# Altium integrated library Xilinx Memory SPROM.IntLib: 32 symbols
Pins are listed as number, name and electrical type; pins without a type are passive.

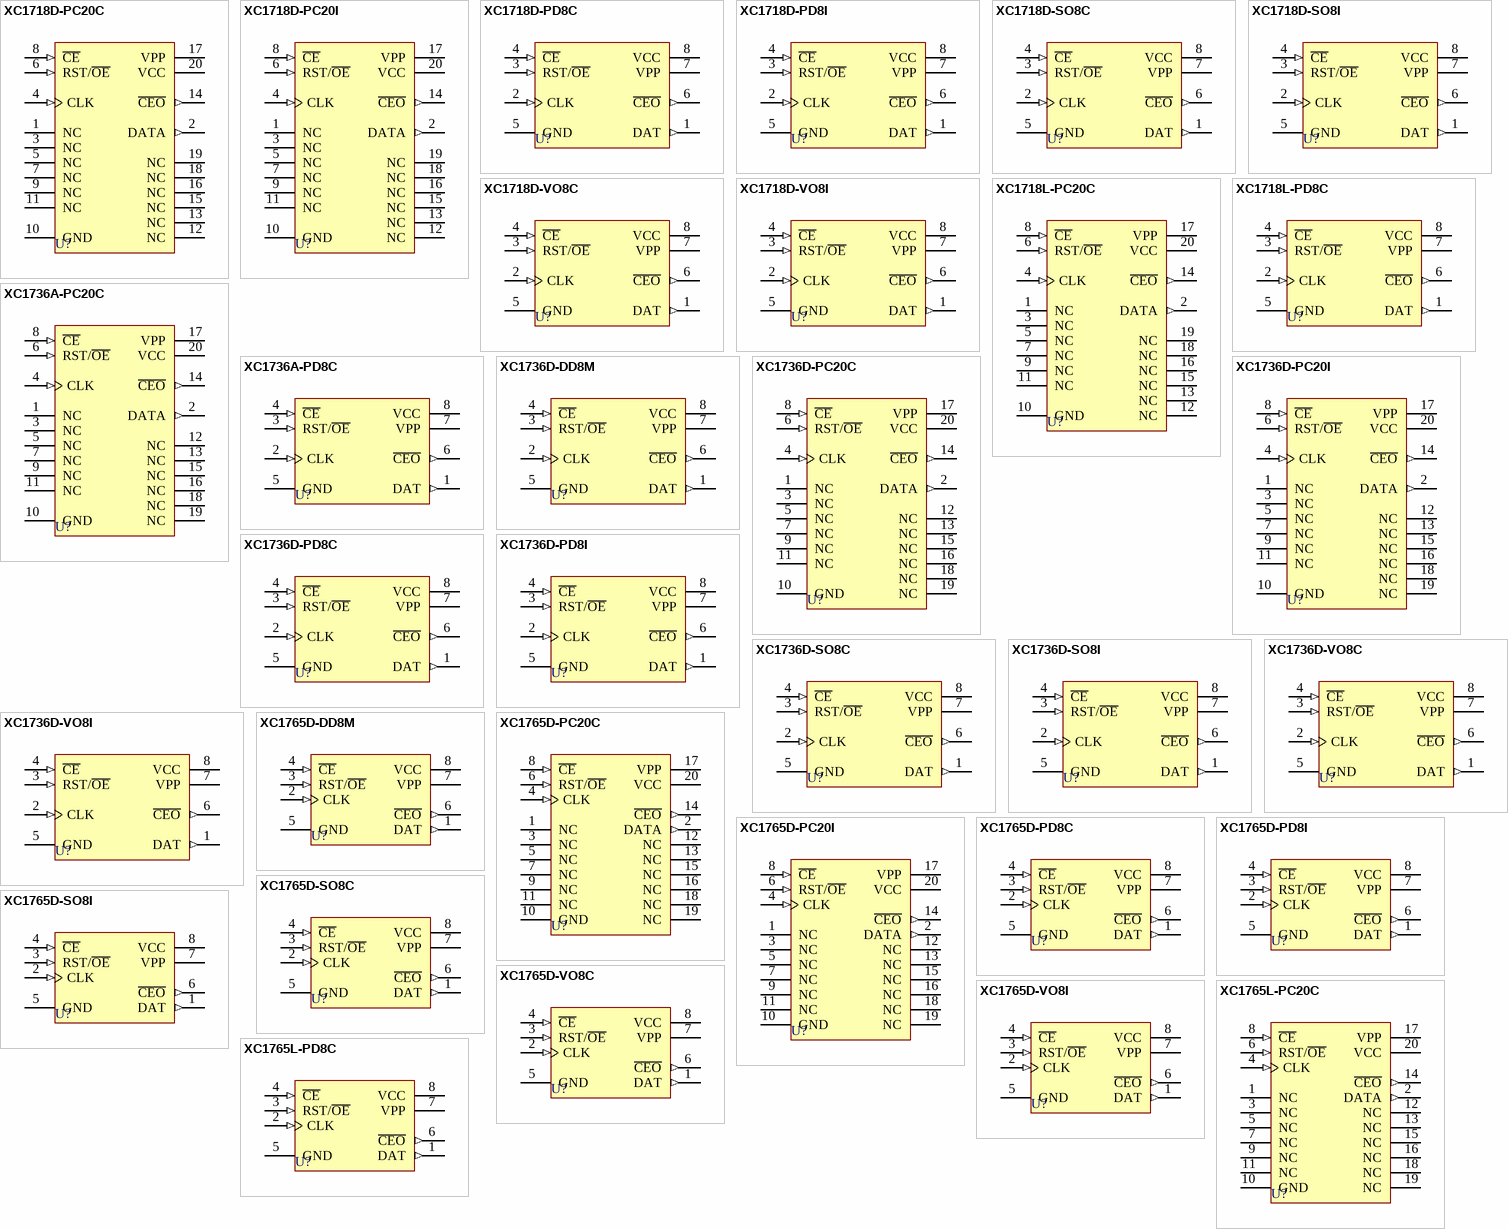
[diagram p0: symbols XC1718D-PC20C to XC1765L-PD8C]

## XC1718D-PC20C
designator U?
Serial Configuration PROM, 20-Pin PLCC, Commercial Grade; ComponentAvailability: Obsolete; Published: 8-Jun-2000; LatestRevisionDate: 13-Apr-2006; LatestRevisionNote: IPC-7351 Footprint Added.; DatasheetVersion: 1994; PackageVersion: ver1.2, Jun-2004; PackageReference: PC20; Publisher: Altium Limited; PackageDescription: 20-Pin Plastic Leaded Chip Carrier (PC20); Code_JEDEC: MS-047; Code_IPC: PLCC-20; ComponentLink1Description: Manufacturer Link; ComponentLink1URL: http://www.xilinx.com/; ComponentLink2Description: Discontinuation Notice; ComponentLink2URL: http://direct.xilinx.com/bvdocs/notifications/pdn98004.pdf
footprint PC20_N (Leaded Chip Carrier, 20-Leads, Body 9x9mm, Pitch 1.27mm, IPC Medium Density)
footprint PC20_L (Leaded Chip Carrier, 20-Leads, Body 9x9mm, Pitch 1.27mm, IPC High Density)
footprint PC20_M (Leaded Chip Carrier, 20-Leads, Body 9x9mm, Pitch 1.27mm, IPC Low Density)
3D model XC1718D-PC20 (20-Pin Plastic Leaded Chip Carrier (PC20))
pins: 1 NC, 2 DATA (out), 3 NC, 4 CLK (in), 5 NC, 6 RST/~{OE} (in), 7 NC, 8 ~{CE} (in), 9 NC, 10 GND (power), 11 NC, 12 NC, 13 NC, 14 ~{CEO} (out), 15 NC, 16 NC, 17 VPP (power), 18 NC, 19 NC, 20 VCC (power)

## XC1718D-PC20I
designator U?
Serial Configuration PROM, 20-Pin PLCC, Industrial Grade; ComponentAvailability: Obsolete; Published: 8-Jun-2000; LatestRevisionDate: 13-Apr-2006; LatestRevisionNote: IPC-7351 Footprint Added.; DatasheetVersion: 1994; PackageVersion: ver1.2, Jun-2004; PackageReference: PC20; Publisher: Altium Limited; PackageDescription: 20-Pin Plastic Leaded Chip Carrier (PC20); Code_JEDEC: MS-047; Code_IPC: PLCC-20; ComponentLink1Description: Manufacturer Link; ComponentLink1URL: http://www.xilinx.com/; ComponentLink2Description: Discontinuation Notice; ComponentLink2URL: http://direct.xilinx.com/bvdocs/notifications/pdn98004.pdf
footprint PC20_N (Leaded Chip Carrier, 20-Leads, Body 9x9mm, Pitch 1.27mm, IPC Medium Density)
footprint PC20_L (Leaded Chip Carrier, 20-Leads, Body 9x9mm, Pitch 1.27mm, IPC High Density)
footprint PC20_M (Leaded Chip Carrier, 20-Leads, Body 9x9mm, Pitch 1.27mm, IPC Low Density)
3D model XC1718D-PC20 (20-Pin Plastic Leaded Chip Carrier (PC20))
pins: 1 NC, 2 DATA (out), 3 NC, 4 CLK (in), 5 NC, 6 RST/~{OE} (in), 7 NC, 8 ~{CE} (in), 9 NC, 10 GND (power), 11 NC, 12 NC, 13 NC, 14 ~{CEO} (out), 15 NC, 16 NC, 17 VPP (power), 18 NC, 19 NC, 20 VCC (power)

## XC1718D-PD8C
designator U?
Serial Configuration PROM, 8-Pin PDIP, Commercial Grade; ComponentAvailability: Obsolete; Published: 8-Jun-2000; LatestRevisionDate: 17-Jul-2002; LatestRevisionNote: Re-released for DXP Platform.; DatasheetVersion: 1994; PackageVersion: rev1.1, Apr-2001; PackageReference: PD8; Publisher: Altium Limited; PackageDescription: 8-Pin Plastic DIP (PD8); Code_JEDEC: MS-001-BA; ComponentLink1Description: Manufacturer Link; ComponentLink1URL: http://www.xilinx.com/; ComponentLink2Description: Discontinuation Notice; ComponentLink2URL: http://direct.xilinx.com/bvdocs/notifications/pdn98004.pdf
footprint PD8 (8-Pin Plastic DIP (PD8))
pins: 1 DAT (out), 2 CLK (in), 3 RST/~{OE} (in), 4 ~{CE} (in), 5 GND (power), 6 ~{CEO} (out), 7 VPP (power), 8 VCC (power)

## XC1718D-PD8I
designator U?
Serial Configuration PROM, 8-Pin PDIP, Industrial Grade; ComponentAvailability: Obsolete; Published: 8-Jun-2000; LatestRevisionDate: 17-Jul-2002; LatestRevisionNote: Re-released for DXP Platform.; DatasheetVersion: 1994; PackageVersion: rev1.1, Apr-2001; PackageReference: PD8; Publisher: Altium Limited; PackageDescription: 8-Pin Plastic DIP (PD8); Code_JEDEC: MS-001-BA; ComponentLink1Description: Manufacturer Link; ComponentLink1URL: http://www.xilinx.com/; ComponentLink2Description: Discontinuation Notice; ComponentLink2URL: http://direct.xilinx.com/bvdocs/notifications/pdn98004.pdf
footprint PD8 (8-Pin Plastic DIP (PD8))
pins: 1 DAT (out), 2 CLK (in), 3 RST/~{OE} (in), 4 ~{CE} (in), 5 GND (power), 6 ~{CEO} (out), 7 VPP (power), 8 VCC (power)

## XC1718D-SO8C
designator U?
Serial Configuration PROM, 8-Pin SOIC, Commercial Grade; ComponentAvailability: Obsolete; Published: 8-Jun-2000; LatestRevisionDate: 13-Apr-2006; LatestRevisionNote: IPC-7351 Footprint Added.; DatasheetVersion: 1994; PackageVersion: ver1.1, Apr-2001; PackageReference: SO8; Publisher: Altium Limited; PackageDescription: 8-Pin Small Outline Package (SO8); Code_JEDEC: MS-012; ComponentLink1Description: Manufacturer Link; ComponentLink1URL: http://www.xilinx.com/; ComponentLink2Description: Discontinuation Notice; ComponentLink2URL: http://direct.xilinx.com/bvdocs/notifications/pdn98004.pdf
footprint SO8_N (SOIC, 8-Leads, Body 4.9x3.9mm, Pitch 1.27mm, IPC Medium Density)
footprint SO8_L (SOIC, 8-Leads, Body 4.9x3.9mm, Pitch 1.27mm, IPC High Density)
footprint SO8_M (SOIC, 8-Leads, Body 4.9x3.9mm, Pitch 1.27mm, IPC Low Density)
3D model SO8 (8-Pin Small Outline Package (SO8))
pins: 1 DAT (out), 2 CLK (in), 3 RST/~{OE} (in), 4 ~{CE} (in), 5 GND (power), 6 ~{CEO} (out), 7 VPP (power), 8 VCC (power)

## XC1718D-SO8I
designator U?
Serial Configuration PROM, 8-Pin SOIC, Industrial Grade; ComponentAvailability: Obsolete; Published: 8-Jun-2000; LatestRevisionDate: 13-Apr-2006; LatestRevisionNote: IPC-7351 Footprint Added.; DatasheetVersion: 1994; PackageVersion: ver1.1, Apr-2001; PackageReference: SO8; Publisher: Altium Limited; PackageDescription: 8-Pin Small Outline Package (SO8); Code_JEDEC: MS-012; ComponentLink1Description: Manufacturer Link; ComponentLink1URL: http://www.xilinx.com/; ComponentLink2Description: Discontinuation Notice; ComponentLink2URL: http://direct.xilinx.com/bvdocs/notifications/pdn98004.pdf
footprint SO8_N (SOIC, 8-Leads, Body 4.9x3.9mm, Pitch 1.27mm, IPC Medium Density)
footprint SO8_L (SOIC, 8-Leads, Body 4.9x3.9mm, Pitch 1.27mm, IPC High Density)
footprint SO8_M (SOIC, 8-Leads, Body 4.9x3.9mm, Pitch 1.27mm, IPC Low Density)
3D model SO8 (8-Pin Small Outline Package (SO8))
pins: 1 DAT (out), 2 CLK (in), 3 RST/~{OE} (in), 4 ~{CE} (in), 5 GND (power), 6 ~{CEO} (out), 7 VPP (power), 8 VCC (power)

## XC1718D-VO8C
designator U?
Serial Configuration PROM, 8-Pin TSOP, Commercial Grade; ComponentAvailability: Obsolete; Published: 8-Jun-2000; LatestRevisionDate: 13-Apr-2006; LatestRevisionNote: IPC-7351 Footprint Added.; DatasheetVersion: 1994; PackageVersion: ver1.1, Apr-2001; PackageReference: VO8; Publisher: Altium Limited; PackageDescription: 8-Pin Thin Small Outline Package (VO8); ComponentLink1Description: Manufacturer Link; ComponentLink1URL: http://www.xilinx.com/; ComponentLink2Description: Discontinuation Notice; ComponentLink2URL: http://direct.xilinx.com/bvdocs/notifications/pdn98004.pdf
footprint VO8_N (SOIC, 8-Leads, Body 4.9x3.9mm, Pitch 1.27mm, IPC Medium Density)
footprint VO8_L (SOIC, 8-Leads, Body 4.9x3.9mm, Pitch 1.27mm, IPC High Density)
footprint VO8_M (SOIC, 8-Leads, Body 4.9x3.9mm, Pitch 1.27mm, IPC Low Density)
3D model SO8 (8-Pin Thin Small Outline Package (VO8))
pins: 1 DAT (out), 2 CLK (in), 3 RST/~{OE} (in), 4 ~{CE} (in), 5 GND (power), 6 ~{CEO} (out), 7 VPP (power), 8 VCC (power)

## XC1718D-VO8I
designator U?
Serial Configuration PROM, 8-Pin TSOP, Industrial Grade; ComponentAvailability: Obsolete; Published: 8-Jun-2000; LatestRevisionDate: 13-Apr-2006; LatestRevisionNote: IPC-7351 Footprint Added.; DatasheetVersion: 1994; PackageVersion: ver1.1, Apr-2001; PackageReference: VO8; Publisher: Altium Limited; PackageDescription: 8-Pin Thin Small Outline Package (VO8); ComponentLink1Description: Manufacturer Link; ComponentLink1URL: http://www.xilinx.com/; ComponentLink2Description: Discontinuation Notice; ComponentLink2URL: http://direct.xilinx.com/bvdocs/notifications/pdn98004.pdf
footprint VO8_N (SOIC, 8-Leads, Body 4.9x3.9mm, Pitch 1.27mm, IPC Medium Density)
footprint VO8_L (SOIC, 8-Leads, Body 4.9x3.9mm, Pitch 1.27mm, IPC High Density)
footprint VO8_M (SOIC, 8-Leads, Body 4.9x3.9mm, Pitch 1.27mm, IPC Low Density)
3D model SO8 (8-Pin Thin Small Outline Package (VO8))
pins: 1 DAT (out), 2 CLK (in), 3 RST/~{OE} (in), 4 ~{CE} (in), 5 GND (power), 6 ~{CEO} (out), 7 VPP (power), 8 VCC (power)

## XC1718L-PC20C
designator U?
Serial Configuration PROM, 20-Pin PLCC, Commercial Grade; ComponentAvailability: Obsolete; Published: 8-Jun-2000; LatestRevisionDate: 13-Apr-2006; LatestRevisionNote: IPC-7351 Footprint Added.; DatasheetVersion: 1994; PackageVersion: ver1.2, Jun-2004; PackageReference: PC20; Publisher: Altium Limited; PackageDescription: 20-Pin Plastic Leaded Chip Carrier (PC20); Code_JEDEC: MS-047; Code_IPC: PLCC-20; ComponentLink1Description: Manufacturer Link; ComponentLink1URL: http://www.xilinx.com/; ComponentLink2Description: Discontinuation Notice; ComponentLink2URL: http://direct.xilinx.com/bvdocs/notifications/pdn98004.pdf
footprint PC20_N (Leaded Chip Carrier, 20-Leads, Body 9x9mm, Pitch 1.27mm, IPC Medium Density)
footprint PC20_L (Leaded Chip Carrier, 20-Leads, Body 9x9mm, Pitch 1.27mm, IPC High Density)
footprint PC20_M (Leaded Chip Carrier, 20-Leads, Body 9x9mm, Pitch 1.27mm, IPC Low Density)
3D model XC1718L-PC20 (20-Pin Plastic Leaded Chip Carrier (PC20))
pins: 1 NC, 2 DATA (out), 3 NC, 4 CLK (in), 5 NC, 6 RST/~{OE} (in), 7 NC, 8 ~{CE} (in), 9 NC, 10 GND (power), 11 NC, 12 NC, 13 NC, 14 ~{CEO} (out), 15 NC, 16 NC, 17 VPP (power), 18 NC, 19 NC, 20 VCC (power)

## XC1718L-PD8C
designator U?
Serial Configuration PROM, 8-Pin PDIP, Commercial Grade; ComponentAvailability: Obsolete; Published: 8-Jun-2000; LatestRevisionDate: 17-Jul-2002; LatestRevisionNote: Re-released for DXP Platform.; DatasheetVersion: 1994; PackageVersion: rev1.1, Apr-2001; PackageReference: PD8; Publisher: Altium Limited; PackageDescription: 8-Pin Plastic DIP (PD8); Code_JEDEC: MS-001-BA; ComponentLink1Description: Manufacturer Link; ComponentLink1URL: http://www.xilinx.com/; ComponentLink2Description: Discontinuation Notice; ComponentLink2URL: http://direct.xilinx.com/bvdocs/notifications/pdn98004.pdf
footprint PD8 (8-Pin Plastic DIP (PD8))
pins: 1 DAT (out), 2 CLK (in), 3 RST/~{OE} (in), 4 ~{CE} (in), 5 GND (power), 6 ~{CEO} (out), 7 VPP (power), 8 VCC (power)

## XC1736A-PC20C
designator U?
Serial Configuration PROM, 20-Pin PLCC, Commercial Grade; ComponentAvailability: Obsolete; Published: 8-Jun-2000; LatestRevisionDate: 13-Apr-2006; LatestRevisionNote: IPC-7351 Footprint Added.; DatasheetVersion: 1992; PackageVersion: ver1.2, Jun-2004; PackageReference: PC20; Publisher: Altium Limited; PackageDescription: 20-Pin Plastic Leaded Chip Carrier (PC20); Code_JEDEC: MS-047; Code_IPC: PLCC-20; ComponentLink1Description: Manufacturer Link; ComponentLink1URL: http://www.xilinx.com/; ComponentLink2Description: Discontinuation Notice; ComponentLink2URL: http://direct.xilinx.com/bvdocs/notifications/pcn95010.pdf
footprint PC20_N (Leaded Chip Carrier, 20-Leads, Body 9x9mm, Pitch 1.27mm, IPC Medium Density)
footprint PC20_L (Leaded Chip Carrier, 20-Leads, Body 9x9mm, Pitch 1.27mm, IPC High Density)
footprint PC20_M (Leaded Chip Carrier, 20-Leads, Body 9x9mm, Pitch 1.27mm, IPC Low Density)
3D model XC1736A-PC20 (20-Pin Plastic Leaded Chip Carrier (PC20))
pins: 1 NC, 2 DATA (out), 3 NC, 4 CLK (in), 5 NC, 6 RST/~{OE} (in), 7 NC, 8 ~{CE} (in), 9 NC, 10 GND (power), 11 NC, 12 NC, 13 NC, 14 ~{CEO} (out), 15 NC, 16 NC, 17 VPP (power), 18 NC, 19 NC, 20 VCC (power)

## XC1736A-PD8C
designator U?
Serial Configuration PROM, 8-Pin PDIP, Commercial Grade; ComponentAvailability: Obsolete; Published: 8-Jun-2000; LatestRevisionDate: 17-Jul-2002; LatestRevisionNote: Re-released for DXP Platform.; DatasheetVersion: 1992; PackageVersion: rev1.1, Apr-2001; PackageReference: PD8; Publisher: Altium Limited; PackageDescription: 8-Pin Plastic DIP (PD8); Code_JEDEC: MS-001-BA; ComponentLink1Description: Manufacturer Link; ComponentLink1URL: http://www.xilinx.com/; ComponentLink2Description: Discontinuation Notice; ComponentLink2URL: http://direct.xilinx.com/bvdocs/notifications/pcn95010.pdf
footprint PD8 (8-Pin Plastic DIP (PD8))
pins: 1 DAT (out), 2 CLK (in), 3 RST/~{OE} (in), 4 ~{CE} (in), 5 GND (power), 6 ~{CEO} (out), 7 VPP (power), 8 VCC (power)

## XC1736D-DD8M
designator U?
Serial Configuration PROM, 8-Pin DIP, Military Grade; ComponentAvailability: Obsolete; Published: 8-Jun-2000; LatestRevisionDate: 04-Mar-2005; LatestRevisionNote: Stylized 3D Model Added.; DatasheetVersion: 1994; PackageVersion: rev1.0, Apr-2001; PackageReference: DD8; Publisher: Altium Limited; PackageDescription: 8-Pin Ceramic DIP (DD8); Code_JEDEC: MO-001-AN*; ComponentLink1Description: Manufacturer Link; ComponentLink1URL: http://www.xilinx.com/; ComponentLink2Description: Discontinuation Notice; ComponentLink2URL: http://direct.xilinx.com/bvdocs/notifications/pcn95010.pdf
footprint DD8 (8-Pin Ceramic DIP (DD8))
3D model DD8 (8-Pin Ceramic DIP (DD8))
pins: 1 DAT (out), 2 CLK (in), 3 RST/~{OE} (in), 4 ~{CE} (in), 5 GND (power), 6 ~{CEO} (out), 7 VPP (power), 8 VCC (power)

## XC1736D-PC20C
designator U?
Serial Configuration PROM, 20-Pin PLCC, Commercial Grade; ComponentAvailability: Obsolete; Published: 8-Jun-2000; LatestRevisionDate: 13-Apr-2006; LatestRevisionNote: IPC-7351 Footprint Added.; DatasheetVersion: 1994; PackageVersion: ver1.2, Jun-2004; PackageReference: PC20; Publisher: Altium Limited; PackageDescription: 20-Pin Plastic Leaded Chip Carrier (PC20); Code_JEDEC: MS-047; Code_IPC: PLCC-20; ComponentLink1Description: Manufacturer Link; ComponentLink1URL: http://www.xilinx.com/; ComponentLink2Description: Discontinuation Notice; ComponentLink2URL: http://direct.xilinx.com/bvdocs/notifications/pcn95010.pdf
footprint PC20_N (Leaded Chip Carrier, 20-Leads, Body 9x9mm, Pitch 1.27mm, IPC Medium Density)
footprint PC20_L (Leaded Chip Carrier, 20-Leads, Body 9x9mm, Pitch 1.27mm, IPC High Density)
footprint PC20_M (Leaded Chip Carrier, 20-Leads, Body 9x9mm, Pitch 1.27mm, IPC Low Density)
3D model XC1736D-PC20 (20-Pin Plastic Leaded Chip Carrier (PC20))
pins: 1 NC, 2 DATA (out), 3 NC, 4 CLK (in), 5 NC, 6 RST/~{OE} (in), 7 NC, 8 ~{CE} (in), 9 NC, 10 GND (power), 11 NC, 12 NC, 13 NC, 14 ~{CEO} (out), 15 NC, 16 NC, 17 VPP (power), 18 NC, 19 NC, 20 VCC (power)

## XC1736D-PC20I
designator U?
Serial Configuration PROM, 20-Pin PLCC, Industrial Grade; ComponentAvailability: Obsolete; Published: 8-Jun-2000; LatestRevisionDate: 13-Apr-2006; LatestRevisionNote: IPC-7351 Footprint Added.; DatasheetVersion: 1994; PackageVersion: ver1.2, Jun-2004; PackageReference: PC20; Publisher: Altium Limited; PackageDescription: 20-Pin Plastic Leaded Chip Carrier (PC20); Code_JEDEC: MS-047; Code_IPC: PLCC-20; ComponentLink1Description: Manufacturer Link; ComponentLink1URL: http://www.xilinx.com/; ComponentLink2Description: Discontinuation Notice; ComponentLink2URL: http://direct.xilinx.com/bvdocs/notifications/pcn95010.pdf
footprint PC20_N (Leaded Chip Carrier, 20-Leads, Body 9x9mm, Pitch 1.27mm, IPC Medium Density)
footprint PC20_L (Leaded Chip Carrier, 20-Leads, Body 9x9mm, Pitch 1.27mm, IPC High Density)
footprint PC20_M (Leaded Chip Carrier, 20-Leads, Body 9x9mm, Pitch 1.27mm, IPC Low Density)
3D model XC1736D-PC20 (20-Pin Plastic Leaded Chip Carrier (PC20))
pins: 1 NC, 2 DATA (out), 3 NC, 4 CLK (in), 5 NC, 6 RST/~{OE} (in), 7 NC, 8 ~{CE} (in), 9 NC, 10 GND (power), 11 NC, 12 NC, 13 NC, 14 ~{CEO} (out), 15 NC, 16 NC, 17 VPP (power), 18 NC, 19 NC, 20 VCC (power)

## XC1736D-PD8C
designator U?
Serial Configuration PROM, 8-Pin PDIP, Commercial Grade; ComponentAvailability: Obsolete; Published: 8-Jun-2000; LatestRevisionDate: 17-Jul-2002; LatestRevisionNote: Re-released for DXP Platform.; DatasheetVersion: 1994; PackageVersion: rev1.1, Apr-2001; PackageReference: PD8; Publisher: Altium Limited; PackageDescription: 8-Pin Plastic DIP (PD8); Code_JEDEC: MS-001-BA; ComponentLink1Description: Manufacturer Link; ComponentLink1URL: http://www.xilinx.com/; ComponentLink2Description: Discontinuation Notice; ComponentLink2URL: http://direct.xilinx.com/bvdocs/notifications/pcn95010.pdf
footprint PD8 (8-Pin Plastic DIP (PD8))
pins: 1 DAT (out), 2 CLK (in), 3 RST/~{OE} (in), 4 ~{CE} (in), 5 GND (power), 6 ~{CEO} (out), 7 VPP (power), 8 VCC (power)

## XC1736D-PD8I
designator U?
Serial Configuration PROM, 8-Pin PDIP, Industrial Grade; ComponentAvailability: Obsolete; Published: 8-Jun-2000; LatestRevisionDate: 17-Jul-2002; LatestRevisionNote: Re-released for DXP Platform.; DatasheetVersion: 1994; PackageVersion: rev1.1, Apr-2001; PackageReference: PD8; Publisher: Altium Limited; PackageDescription: 8-Pin Plastic DIP (PD8); Code_JEDEC: MS-001-BA; ComponentLink1Description: Manufacturer Link; ComponentLink1URL: http://www.xilinx.com/; ComponentLink2Description: Discontinuation Notice; ComponentLink2URL: http://direct.xilinx.com/bvdocs/notifications/pcn95010.pdf
footprint PD8 (8-Pin Plastic DIP (PD8))
pins: 1 DAT (out), 2 CLK (in), 3 RST/~{OE} (in), 4 ~{CE} (in), 5 GND (power), 6 ~{CEO} (out), 7 VPP (power), 8 VCC (power)

## XC1736D-SO8C
designator U?
Serial Configuration PROM, 8-Pin SOIC, Commercial Grade; ComponentAvailability: Obsolete; Published: 8-Jun-2000; LatestRevisionDate: 13-Apr-2006; LatestRevisionNote: IPC-7351 Footprint Added.; DatasheetVersion: 1994; PackageVersion: ver1.1, Apr-2001; PackageReference: SO8; Publisher: Altium Limited; PackageDescription: 8-Pin Small Outline Package (SO8); Code_JEDEC: MS-012; ComponentLink1Description: Manufacturer Link; ComponentLink1URL: http://www.xilinx.com/; ComponentLink2Description: Discontinuation Notice; ComponentLink2URL: http://direct.xilinx.com/bvdocs/notifications/pcn95010.pdf
footprint SO8_N (SOIC, 8-Leads, Body 4.9x3.9mm, Pitch 1.27mm, IPC Medium Density)
footprint SO8_L (SOIC, 8-Leads, Body 4.9x3.9mm, Pitch 1.27mm, IPC High Density)
footprint SO8_M (SOIC, 8-Leads, Body 4.9x3.9mm, Pitch 1.27mm, IPC Low Density)
3D model SO8 (8-Pin Small Outline Package (SO8))
pins: 1 DAT (out), 2 CLK (in), 3 RST/~{OE} (in), 4 ~{CE} (in), 5 GND (power), 6 ~{CEO} (out), 7 VPP (power), 8 VCC (power)

## XC1736D-SO8I
designator U?
Serial Configuration PROM, 8-Pin SOIC, Industrial Grade; ComponentAvailability: Obsolete; Published: 8-Jun-2000; LatestRevisionDate: 13-Apr-2006; LatestRevisionNote: IPC-7351 Footprint Added.; DatasheetVersion: 1994; PackageVersion: ver1.1, Apr-2001; PackageReference: SO8; Publisher: Altium Limited; PackageDescription: 8-Pin Small Outline Package (SO8); Code_JEDEC: MS-012; ComponentLink1Description: Manufacturer Link; ComponentLink1URL: http://www.xilinx.com/; ComponentLink2Description: Discontinuation Notice; ComponentLink2URL: http://direct.xilinx.com/bvdocs/notifications/pcn95010.pdf
footprint SO8_N (SOIC, 8-Leads, Body 4.9x3.9mm, Pitch 1.27mm, IPC Medium Density)
footprint SO8_L (SOIC, 8-Leads, Body 4.9x3.9mm, Pitch 1.27mm, IPC High Density)
footprint SO8_M (SOIC, 8-Leads, Body 4.9x3.9mm, Pitch 1.27mm, IPC Low Density)
3D model SO8 (8-Pin Small Outline Package (SO8))
pins: 1 DAT (out), 2 CLK (in), 3 RST/~{OE} (in), 4 ~{CE} (in), 5 GND (power), 6 ~{CEO} (out), 7 VPP (power), 8 VCC (power)

## XC1736D-VO8C
designator U?
Serial Configuration PROM, 8-Pin TSOP, Commercial Grade; ComponentAvailability: Obsolete; Published: 8-Jun-2000; LatestRevisionDate: 13-Apr-2006; LatestRevisionNote: IPC-7351 Footprint Added.; DatasheetVersion: 1994; PackageVersion: ver1.1, Apr-2001; PackageReference: VO8; Publisher: Altium Limited; PackageDescription: 8-Pin Thin Small Outline Package (VO8); ComponentLink1Description: Manufacturer Link; ComponentLink1URL: http://www.xilinx.com/; ComponentLink2Description: Discontinuation Notice; ComponentLink2URL: http://direct.xilinx.com/bvdocs/notifications/pcn95010.pdf
footprint VO8_N (SOIC, 8-Leads, Body 4.9x3.9mm, Pitch 1.27mm, IPC Medium Density)
footprint VO8_L (SOIC, 8-Leads, Body 4.9x3.9mm, Pitch 1.27mm, IPC High Density)
footprint VO8_M (SOIC, 8-Leads, Body 4.9x3.9mm, Pitch 1.27mm, IPC Low Density)
3D model SO8 (8-Pin Thin Small Outline Package (VO8))
pins: 1 DAT (out), 2 CLK (in), 3 RST/~{OE} (in), 4 ~{CE} (in), 5 GND (power), 6 ~{CEO} (out), 7 VPP (power), 8 VCC (power)

## XC1736D-VO8I
designator U?
Serial Configuration PROM, 8-Pin TSOP, Industrial Grade; ComponentAvailability: Obsolete; Published: 8-Jun-2000; LatestRevisionDate: 13-Apr-2006; LatestRevisionNote: IPC-7351 Footprint Added.; DatasheetVersion: 1994; PackageVersion: ver1.1, Apr-2001; PackageReference: VO8; Publisher: Altium Limited; PackageDescription: 8-Pin Thin Small Outline Package (VO8); ComponentLink1Description: Manufacturer Link; ComponentLink1URL: http://www.xilinx.com/; ComponentLink2Description: Discontinuation Notice; ComponentLink2URL: http://direct.xilinx.com/bvdocs/notifications/pcn95010.pdf
footprint VO8_N (SOIC, 8-Leads, Body 4.9x3.9mm, Pitch 1.27mm, IPC Medium Density)
footprint VO8_L (SOIC, 8-Leads, Body 4.9x3.9mm, Pitch 1.27mm, IPC High Density)
footprint VO8_M (SOIC, 8-Leads, Body 4.9x3.9mm, Pitch 1.27mm, IPC Low Density)
3D model SO8 (8-Pin Thin Small Outline Package (VO8))
pins: 1 DAT (out), 2 CLK (in), 3 RST/~{OE} (in), 4 ~{CE} (in), 5 GND (power), 6 ~{CEO} (out), 7 VPP (power), 8 VCC (power)

## XC1765D-DD8M
designator U?
Serial Configuration PROM, 8-Pin DIP, Military Grade; ComponentAvailability: Obsolete; Published: 8-Jun-2000; LatestRevisionDate: 04-Mar-2005; LatestRevisionNote: Stylized 3D Model Added.; DatasheetVersion: 1994; PackageVersion: rev1.0, Apr-2001; PackageReference: DD8; Publisher: Altium Limited; PackageDescription: 8-Pin Ceramic DIP (DD8); Code_JEDEC: MO-001-AN*; ComponentLink1Description: Manufacturer Link; ComponentLink1URL: http://www.xilinx.com/; ComponentLink2Description: Discontinuation Notice; ComponentLink2URL: http://direct.xilinx.com/bvdocs/notifications/pcn95010.pdf
footprint DD8 (8-Pin Ceramic DIP (DD8))
3D model DD8 (8-Pin Ceramic DIP (DD8))
pins: 1 DAT (out), 2 CLK (in), 3 RST/~{OE} (in), 4 ~{CE} (in), 5 GND (power), 6 ~{CEO} (out), 7 VPP (power), 8 VCC (power)

## XC1765D-PC20C
designator U?
Serial Configuration PROM, 20-Pin PLCC, Commercial Grade; ComponentAvailability: Obsolete; Published: 8-Jun-2000; LatestRevisionDate: 13-Apr-2006; LatestRevisionNote: IPC-7351 Footprint Added.; DatasheetVersion: 1994; PackageVersion: ver1.2, Jun-2004; PackageReference: PC20; Publisher: Altium Limited; PackageDescription: 20-Pin Plastic Leaded Chip Carrier (PC20); Code_JEDEC: MS-047; Code_IPC: PLCC-20; ComponentLink1Description: Manufacturer Link; ComponentLink1URL: http://www.xilinx.com/; ComponentLink2Description: Discontinuation Notice; ComponentLink2URL: http://direct.xilinx.com/bvdocs/notifications/pcn95010.pdf
footprint PC20_N (Leaded Chip Carrier, 20-Leads, Body 9x9mm, Pitch 1.27mm, IPC Medium Density)
footprint PC20_L (Leaded Chip Carrier, 20-Leads, Body 9x9mm, Pitch 1.27mm, IPC High Density)
footprint PC20_M (Leaded Chip Carrier, 20-Leads, Body 9x9mm, Pitch 1.27mm, IPC Low Density)
3D model XC1765D-PC20 (20-Pin Plastic Leaded Chip Carrier (PC20))
pins: 1 NC, 2 DATA (out), 3 NC, 4 CLK (in), 5 NC, 6 RST/~{OE} (in), 7 NC, 8 ~{CE} (in), 9 NC, 10 GND (power), 11 NC, 12 NC, 13 NC, 14 ~{CEO} (out), 15 NC, 16 NC, 17 VPP (power), 18 NC, 19 NC, 20 VCC (power)

## XC1765D-PC20I
designator U?
Serial Configuration PROM, 20-Pin PLCC, Industrial Grade; ComponentAvailability: Obsolete; Published: 8-Jun-2000; LatestRevisionDate: 13-Apr-2006; LatestRevisionNote: IPC-7351 Footprint Added.; DatasheetVersion: 1994; PackageVersion: ver1.2, Jun-2004; PackageReference: PC20; Publisher: Altium Limited; PackageDescription: 20-Pin Plastic Leaded Chip Carrier (PC20); Code_JEDEC: MS-047; Code_IPC: PLCC-20; ComponentLink1Description: Manufacturer Link; ComponentLink1URL: http://www.xilinx.com/; ComponentLink2Description: Discontinuation Notice; ComponentLink2URL: http://direct.xilinx.com/bvdocs/notifications/pcn95010.pdf
footprint PC20_N (Leaded Chip Carrier, 20-Leads, Body 9x9mm, Pitch 1.27mm, IPC Medium Density)
footprint PC20_L (Leaded Chip Carrier, 20-Leads, Body 9x9mm, Pitch 1.27mm, IPC High Density)
footprint PC20_M (Leaded Chip Carrier, 20-Leads, Body 9x9mm, Pitch 1.27mm, IPC Low Density)
3D model XC1765D-PC20 (20-Pin Plastic Leaded Chip Carrier (PC20))
pins: 1 NC, 2 DATA (out), 3 NC, 4 CLK (in), 5 NC, 6 RST/~{OE} (in), 7 NC, 8 ~{CE} (in), 9 NC, 10 GND (power), 11 NC, 12 NC, 13 NC, 14 ~{CEO} (out), 15 NC, 16 NC, 17 VPP (power), 18 NC, 19 NC, 20 VCC (power)

## XC1765D-PD8C
designator U?
Serial Configuration PROM, 8-Pin PDIP, Commercial Grade; ComponentAvailability: Obsolete; Published: 8-Jun-2000; LatestRevisionDate: 17-Jul-2002; LatestRevisionNote: Re-released for DXP Platform.; DatasheetVersion: 1994; PackageVersion: rev1.1, Apr-2001; PackageReference: PD8; Publisher: Altium Limited; PackageDescription: 8-Pin Plastic DIP (PD8); Code_JEDEC: MS-001-BA; ComponentLink1Description: Manufacturer Link; ComponentLink1URL: http://www.xilinx.com/; ComponentLink2Description: Discontinuation Notice; ComponentLink2URL: http://direct.xilinx.com/bvdocs/notifications/pcn95010.pdf
footprint PD8 (8-Pin Plastic DIP (PD8))
pins: 1 DAT (out), 2 CLK (in), 3 RST/~{OE} (in), 4 ~{CE} (in), 5 GND (power), 6 ~{CEO} (out), 7 VPP (power), 8 VCC (power)

## XC1765D-PD8I
designator U?
Serial Configuration PROM, 8-Pin PDIP, Industrial Grade; ComponentAvailability: Obsolete; Published: 8-Jun-2000; LatestRevisionDate: 17-Jul-2002; LatestRevisionNote: Re-released for DXP Platform.; DatasheetVersion: 1994; PackageVersion: rev1.1, Apr-2001; PackageReference: PD8; Publisher: Altium Limited; PackageDescription: 8-Pin Plastic DIP (PD8); Code_JEDEC: MS-001-BA; ComponentLink1Description: Manufacturer Link; ComponentLink1URL: http://www.xilinx.com/; ComponentLink2Description: Discontinuation Notice; ComponentLink2URL: http://direct.xilinx.com/bvdocs/notifications/pcn95010.pdf
footprint PD8 (8-Pin Plastic DIP (PD8))
pins: 1 DAT (out), 2 CLK (in), 3 RST/~{OE} (in), 4 ~{CE} (in), 5 GND (power), 6 ~{CEO} (out), 7 VPP (power), 8 VCC (power)

## XC1765D-SO8C
designator U?
Serial Configuration PROM, 8-Pin SOIC, Commercial Grade; ComponentAvailability: Obsolete; Published: 8-Jun-2000; LatestRevisionDate: 13-Apr-2006; LatestRevisionNote: IPC-7351 Footprint Added.; DatasheetVersion: 1994; PackageVersion: ver1.1, Apr-2001; PackageReference: SO8; Publisher: Altium Limited; PackageDescription: 8-Pin Small Outline Package (SO8); Code_JEDEC: MS-012; ComponentLink1Description: Manufacturer Link; ComponentLink1URL: http://www.xilinx.com/; ComponentLink2Description: Discontinuation Notice; ComponentLink2URL: http://direct.xilinx.com/bvdocs/notifications/pcn95010.pdf
footprint SO8_N (SOIC, 8-Leads, Body 4.9x3.9mm, Pitch 1.27mm, IPC Medium Density)
footprint SO8_L (SOIC, 8-Leads, Body 4.9x3.9mm, Pitch 1.27mm, IPC High Density)
footprint SO8_M (SOIC, 8-Leads, Body 4.9x3.9mm, Pitch 1.27mm, IPC Low Density)
3D model SO8 (8-Pin Small Outline Package (SO8))
pins: 1 DAT (out), 2 CLK (in), 3 RST/~{OE} (in), 4 ~{CE} (in), 5 GND (power), 6 ~{CEO} (out), 7 VPP (power), 8 VCC (power)

## XC1765D-SO8I
designator U?
Serial Configuration PROM, 8-Pin SOIC, Industrial Grade; ComponentAvailability: Obsolete; Published: 8-Jun-2000; LatestRevisionDate: 13-Apr-2006; LatestRevisionNote: IPC-7351 Footprint Added.; DatasheetVersion: 1994; PackageVersion: ver1.1, Apr-2001; PackageReference: SO8; Publisher: Altium Limited; PackageDescription: 8-Pin Small Outline Package (SO8); Code_JEDEC: MS-012; ComponentLink1Description: Manufacturer Link; ComponentLink1URL: http://www.xilinx.com/; ComponentLink2Description: Discontinuation Notice; ComponentLink2URL: http://direct.xilinx.com/bvdocs/notifications/pcn95010.pdf
footprint SO8_N (SOIC, 8-Leads, Body 4.9x3.9mm, Pitch 1.27mm, IPC Medium Density)
footprint SO8_L (SOIC, 8-Leads, Body 4.9x3.9mm, Pitch 1.27mm, IPC High Density)
footprint SO8_M (SOIC, 8-Leads, Body 4.9x3.9mm, Pitch 1.27mm, IPC Low Density)
3D model SO8 (8-Pin Small Outline Package (SO8))
pins: 1 DAT (out), 2 CLK (in), 3 RST/~{OE} (in), 4 ~{CE} (in), 5 GND (power), 6 ~{CEO} (out), 7 VPP (power), 8 VCC (power)

## XC1765D-VO8C
designator U?
Serial Configuration PROM, 8-Pin TSOP, Commercial Grade; ComponentAvailability: Obsolete; Published: 8-Jun-2000; LatestRevisionDate: 13-Apr-2006; LatestRevisionNote: IPC-7351 Footprint Added.; DatasheetVersion: 1994; PackageVersion: ver1.1, Apr-2001; PackageReference: VO8; Publisher: Altium Limited; PackageDescription: 8-Pin Thin Small Outline Package (VO8); ComponentLink1Description: Manufacturer Link; ComponentLink1URL: http://www.xilinx.com/; ComponentLink2Description: Discontinuation Notice; ComponentLink2URL: http://direct.xilinx.com/bvdocs/notifications/pcn95010.pdf
footprint VO8_N (SOIC, 8-Leads, Body 4.9x3.9mm, Pitch 1.27mm, IPC Medium Density)
footprint VO8_L (SOIC, 8-Leads, Body 4.9x3.9mm, Pitch 1.27mm, IPC High Density)
footprint VO8_M (SOIC, 8-Leads, Body 4.9x3.9mm, Pitch 1.27mm, IPC Low Density)
3D model SO8 (8-Pin Thin Small Outline Package (VO8))
pins: 1 DAT (out), 2 CLK (in), 3 RST/~{OE} (in), 4 ~{CE} (in), 5 GND (power), 6 ~{CEO} (out), 7 VPP (power), 8 VCC (power)

## XC1765D-VO8I
designator U?
Serial Configuration PROM, 8-Pin TSOP, Industrial Grade; ComponentAvailability: Obsolete; Published: 8-Jun-2000; LatestRevisionDate: 13-Apr-2006; LatestRevisionNote: IPC-7351 Footprint Added.; DatasheetVersion: 1994; PackageVersion: ver1.1, Apr-2001; PackageReference: VO8; Publisher: Altium Limited; PackageDescription: 8-Pin Thin Small Outline Package (VO8); ComponentLink1Description: Manufacturer Link; ComponentLink1URL: http://www.xilinx.com/; ComponentLink2Description: Discontinuation Notice; ComponentLink2URL: http://direct.xilinx.com/bvdocs/notifications/pcn95010.pdf
footprint VO8_N (SOIC, 8-Leads, Body 4.9x3.9mm, Pitch 1.27mm, IPC Medium Density)
footprint VO8_L (SOIC, 8-Leads, Body 4.9x3.9mm, Pitch 1.27mm, IPC High Density)
footprint VO8_M (SOIC, 8-Leads, Body 4.9x3.9mm, Pitch 1.27mm, IPC Low Density)
3D model SO8 (8-Pin Thin Small Outline Package (VO8))
pins: 1 DAT (out), 2 CLK (in), 3 RST/~{OE} (in), 4 ~{CE} (in), 5 GND (power), 6 ~{CEO} (out), 7 VPP (power), 8 VCC (power)

## XC1765L-PC20C
designator U?
Serial Configuration PROM, 20-Pin PLCC, Commercial Grade; ComponentAvailability: Obsolete; Published: 8-Jun-2000; LatestRevisionDate: 13-Apr-2006; LatestRevisionNote: IPC-7351 Footprint Added.; DatasheetVersion: 1994; PackageVersion: ver1.2, Jun-2004; PackageReference: PC20; Publisher: Altium Limited; PackageDescription: 20-Pin Plastic Leaded Chip Carrier (PC20); Code_JEDEC: MS-047; Code_IPC: PLCC-20; ComponentLink1Description: Manufacturer Link; ComponentLink1URL: http://www.xilinx.com/; ComponentLink2Description: Discontinuation Notice; ComponentLink2URL: http://direct.xilinx.com/bvdocs/notifications/pcn95010.pdf
footprint PC20_N (Leaded Chip Carrier, 20-Leads, Body 9x9mm, Pitch 1.27mm, IPC Medium Density)
footprint PC20_L (Leaded Chip Carrier, 20-Leads, Body 9x9mm, Pitch 1.27mm, IPC High Density)
footprint PC20_M (Leaded Chip Carrier, 20-Leads, Body 9x9mm, Pitch 1.27mm, IPC Low Density)
3D model XC1765L-PC20 (20-Pin Plastic Leaded Chip Carrier (PC20))
pins: 1 NC, 2 DATA (out), 3 NC, 4 CLK (in), 5 NC, 6 RST/~{OE} (in), 7 NC, 8 ~{CE} (in), 9 NC, 10 GND (power), 11 NC, 12 NC, 13 NC, 14 ~{CEO} (out), 15 NC, 16 NC, 17 VPP (power), 18 NC, 19 NC, 20 VCC (power)

## XC1765L-PD8C
designator U?
Serial Configuration PROM, 8-Pin PDIP, Commercial Grade; ComponentAvailability: Obsolete; Published: 8-Jun-2000; LatestRevisionDate: 17-Jul-2002; LatestRevisionNote: Re-released for DXP Platform.; DatasheetVersion: 1994; PackageVersion: rev1.1, Apr-2001; PackageReference: PD8; Publisher: Altium Limited; PackageDescription: 8-Pin Plastic DIP (PD8); Code_JEDEC: MS-001-BA; ComponentLink1Description: Manufacturer Link; ComponentLink1URL: http://www.xilinx.com/; ComponentLink2Description: Discontinuation Notice; ComponentLink2URL: http://direct.xilinx.com/bvdocs/notifications/pcn95010.pdf
footprint PD8 (8-Pin Plastic DIP (PD8))
pins: 1 DAT (out), 2 CLK (in), 3 RST/~{OE} (in), 4 ~{CE} (in), 5 GND (power), 6 ~{CEO} (out), 7 VPP (power), 8 VCC (power)